# Altium schematic symbol library diode.SchLib: 1 symbol
Pins are listed as number, name and electrical type; pins without a type are passive.

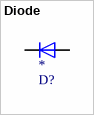
[diagram p0: symbol Diode]

## Diode
designator D?
Diode; Datasheet: https://diotec.com/de/produktliste/D.html; Description_: Diode; ki_keywords: Diode; Supplier 1: Arrow Electronics; Supplier 2: Mouser; Supplier 3: Arrow Electronics; Supplier 4: Mouser; Supplier 5: Mouser; Supplier Part Number 1: 1N4148W; Supplier Part Number 2: 637-1N4148W-AQ; Supplier Part Number 3: 1N4448W; Supplier Part Number 4: 637-1N4448W-AQ; Supplier Part Number 5: 637-BAS16WH-AQ; Value: Diode
footprint SOD-123F (SMD)
pins: 1 K, 2 A